# EAGLE library part LPC4357JBD208 (library nxp_60_1_1)
32-bit ARM Cortex-M4/M0 MCU; up to 1 MB flash and 136 kB SRAM; Ethernet, two High-speed USB, LCD, EMC The LPC435x/3x/2x/1x are ARM Cortex-M4 based microcontrollers for embedded applications which include an ARM Cortex-M0 coprocessor, up to 1 MB of flash and 136 kB of on-chip SRAM, 16 kB of EEPROM memory, a quad SPI Flash Interface (SPIFI), advanced configurable peripherals such as the State Configurable Timer (SCT) and the Serial General Purpose I/O (SGPIO) interface, two High-speed USB controllers, Ethernet, LCD, an external memory controller, and multiple digital and analog peripherals. The LPC435x/3x/2x/1x operate at CPU frequencies of up to 204 MHz. The ARM Cortex-M4 is a next generation 32-bit core that offers system enhancements such as low power consumption, enhanced debug features, and a high level of support block integration. The ARM Cortex-M4 CPU incorporates a 3-stage pipeline, uses a Harvard architecture with separate local instruction and data buses as well as a third bus for peripherals, and includes an internal prefetch unit that supports speculative branching. The ARM Cortex-M4 supports single-cycle digital signal processing and SIMD instructions. A hardware floating-point unit is integrated in the core. The ARM Cortex-M0 coprocessor is an energy-efficient and easy-to-use 32-bit core which is upward code- and tool-compatible with the Cortex-M4 core. The Cortex-M0 coprocessor, designed as a replacement for existing 8/16-bit microcontrollers, offers up to 204 MHz performance with a simple instruction set and reduced code size. AAL Eindhoven MK
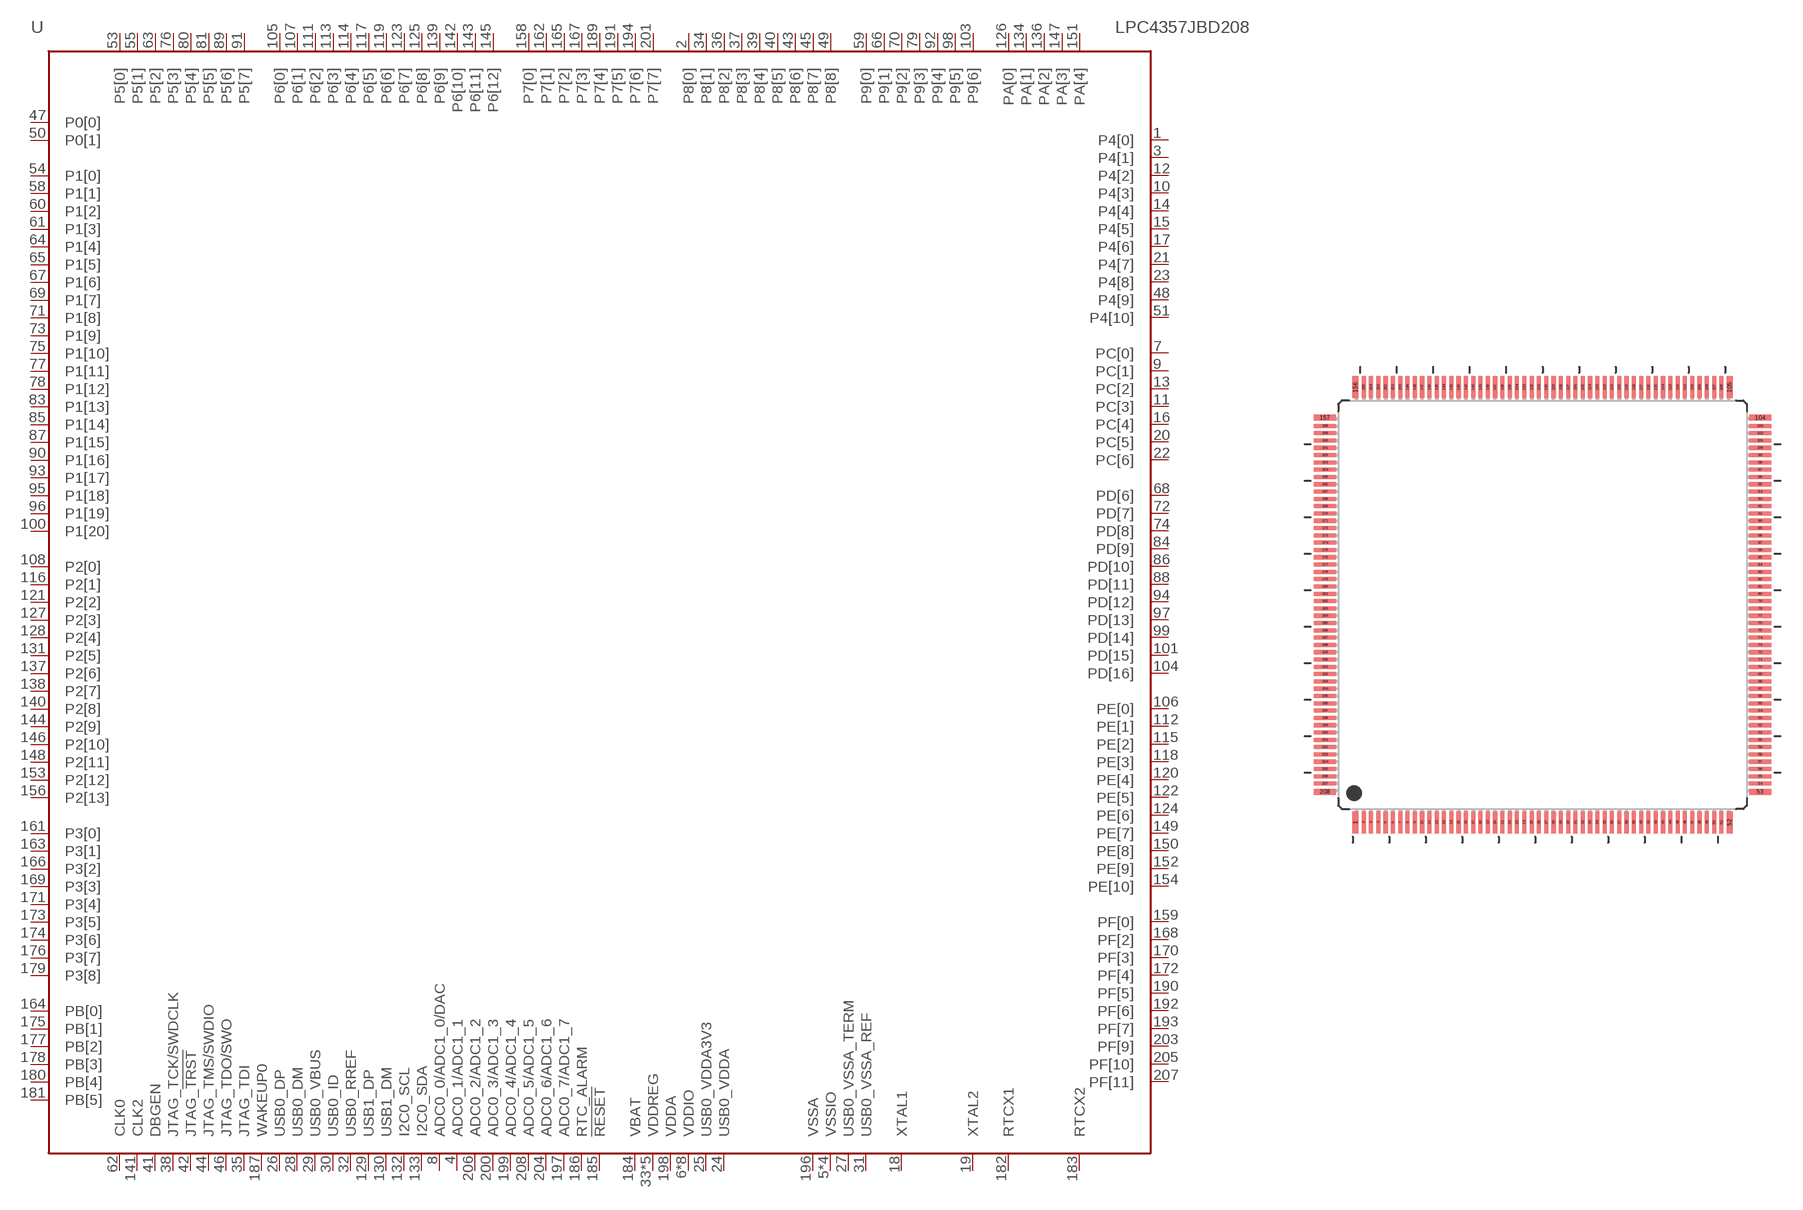
[diagram p155: symbol with the pads of SOT459-1; footprint SOT459-1]

Designator prefix U

## LPC4357JBD208  [SOT459-1]
1  P4[0]
2  P8[0]
3  P4[1]
4  ADC0_1/ADC1_1  in
5  VSSIO  pwr
6  VDDIO  pwr
7  PC[0]
8  ADC0_0/ADC1_0/DAC  in
9  PC[1]
10  P4[3]
11  PC[3]
12  P4[2]
13  PC[2]
14  P4[4]
15  P4[5]
16  PC[4]
17  P4[6]
18  XTAL1  in
19  XTAL2  out
20  PC[5]
21  P4[7]
22  PC[6]
23  P4[8]
24  USB0_VDDA  pwr
25  USB0_VDDA3V3  pwr
26  USB0_DP
27  USB0_VSSA_TERM  pwr
28  USB0_DM
29  USB0_VBUS
30  USB0_ID  in
31  USB0_VSSA_REF  pwr
32  USB0_RREF  pas
33  VDDREG  pwr
34  P8[1]
35  JTAG_TDI  in
36  P8[2]
37  P8[3]
38  JTAG_TCK/SWDCLK  in
39  P8[4]
40  P8[5]
41  DBGEN  in
42  JTAG_!TRST  in
43  P8[6]
44  JTAG_TMS/SWDIO  in
45  P8[7]
46  JTAG_TDO/SWO  out
47  P0[0]
48  P4[9]
49  P8[8]
50  P0[1]
51  P4[10]
52  VDDIO  pwr
53  P5[0]
54  P1[0]
55  P5[1]
56  VSSIO  pwr
57  VDDIO  pwr
58  P1[1]
59  P9[0]
60  P1[2]
61  P1[3]
62  CLK0
63  P5[2]
64  P1[4]
65  P1[5]
66  P9[1]
67  P1[6]
68  PD[6]
69  P1[7]
70  P9[2]
71  P1[8]
72  PD[7]
73  P1[9]
74  PD[8]
75  P1[10]
76  P5[3]
77  P1[11]
78  P1[12]
79  P9[3]
80  P5[4]
81  P5[5]
82  VDDREG  pwr
83  P1[13]
84  PD[9]
85  P1[14]
86  PD[10]
87  P1[15]
88  PD[11]
89  P5[6]
90  P1[16]
91  P5[7]
92  P9[4]
93  P1[17]
94  PD[12]
95  P1[18]
96  P1[19]
97  PD[13]
98  P9[5]
99  PD[14]
100  P1[20]
101  PD[15]
102  VDDIO  pwr
103  P9[6]
104  PD[16]
105  P6[0]
106  PE[0]
107  P6[1]
108  P2[0]
109  VSSIO  pwr
110  VDDIO  pwr
111  P6[2]
112  PE[1]
113  P6[3]
114  P6[4]
115  PE[2]
116  P2[1]
117  P6[5]
118  PE[3]
119  P6[6]
120  PE[4]
121  P2[2]
122  PE[5]
123  P6[7]
124  PE[6]
125  P6[8]
126  PA[0]
127  P2[3]
128  P2[4]
129  USB1_DP
130  USB1_DM
131  P2[5]
132  I2C0_SCL
133  I2C0_SDA
134  PA[1]
135  VDDREG  pwr
136  PA[2]
137  P2[6]
138  P2[7]
139  P6[9]
140  P2[8]
141  CLK2
142  P6[10]
143  P6[11]
144  P2[9]
145  P6[12]
146  P2[10]
147  PA[3]
148  P2[11]
149  PE[7]
150  PE[8]
151  PA[4]
152  PE[9]
153  P2[12]
154  PE[10]
155  VDDIO  pwr
156  P2[13]
157  VSSIO  pwr
158  P7[0]
159  PF[0]
160  VDDIO  pwr
161  P3[0]
162  P7[1]
163  P3[1]
164  PB[0]
165  P7[2]
166  P3[2]
167  P7[3]
168  PF[2]
169  P3[3]
170  PF[3]
171  P3[4]
172  PF[4]
173  P3[5]
174  P3[6]
175  PB[1]
176  P3[7]
177  PB[2]
178  PB[3]
179  P3[8]
180  PB[4]
181  PB[5]
182  RTCX1  in
183  RTCX2  out
184  VBAT  pwr
185  !RESET!  in
186  RTC_ALARM  out
187  WAKEUP0  in
188  VDDREG  pwr
189  P7[4]
190  PF[5]
191  P7[5]
192  PF[6]
193  PF[7]
194  P7[6]
195  VDDREG  pwr
196  VSSA  pwr
197  ADC0_7/ADC1_7  in
198  VDDA  pwr
199  ADC0_4/ADC1_4  in
200  ADC0_3/ADC1_3  in
201  P7[7]
202  VDDIO  pwr
203  PF[9]
204  ADC0_6/ADC1_6  in
205  PF[10]
206  ADC0_2/ADC1_2  in
207  PF[11]
208  ADC0_5/ADC1_5  in

## Footprint SOT459-1 (pad centres in mm)
SOT459-1 LQFP208; plastic low profile quad flat package; 208 leads; body 28 x 28 x 1.4 mm JEDEC: MS-026 IEC: 136E30 JEITA: --
smd 0.4 x 1.5: 1 -12.81,-14.9; 52 12.81,-14.9; 105 12.81,14.9; 156 -12.81,14.9
smd 0.28 x 1.5: 2 -12.25,-14.9; 3 -11.75,-14.9; 4 -11.25,-14.9; 5 -10.75,-14.9; 6 -10.25,-14.9; 7 -9.75,-14.9; 8 -9.25,-14.9; 9 -8.75,-14.9; 10 -8.25,-14.9; 11 -7.75,-14.9; 12 -7.25,-14.9; 13 -6.75,-14.9; 14 -6.25,-14.9; 15 -5.75,-14.9; 16 -5.25,-14.9; 17 -4.75,-14.9; 18 -4.25,-14.9; 19 -3.75,-14.9; 20 -3.25,-14.9; 21 -2.75,-14.9; 22 -2.25,-14.9; 23 -1.75,-14.9; 24 -1.25,-14.9; 25 -0.75,-14.9; 26 -0.25,-14.9; 27 0.25,-14.9; 28 0.75,-14.9; 29 1.25,-14.9; 30 1.75,-14.9; 31 2.25,-14.9; 32 2.75,-14.9; 33 3.25,-14.9; 34 3.75,-14.9; 35 4.25,-14.9; 36 4.75,-14.9; 37 5.25,-14.9; 38 5.75,-14.9; 39 6.25,-14.9; 40 6.75,-14.9; 41 7.25,-14.9; 42 7.75,-14.9; 43 8.25,-14.9; 44 8.75,-14.9; 45 9.25,-14.9; 46 9.75,-14.9; 47 10.25,-14.9; 48 10.75,-14.9; 49 11.25,-14.9; 50 11.75,-14.9; 51 12.25,-14.9; 106 12.25,14.9; 107 11.75,14.9; 108 11.25,14.9; 109 10.75,14.9; 110 10.25,14.9; 111 9.75,14.9; 112 9.25,14.9; 113 8.75,14.9; 114 8.25,14.9; 115 7.75,14.9; 116 7.25,14.9; 117 6.75,14.9; 118 6.25,14.9; 119 5.75,14.9; 120 5.25,14.9; 121 4.75,14.9; 122 4.25,14.9; 123 3.75,14.9; 124 3.25,14.9; 125 2.75,14.9; 126 2.25,14.9; 127 1.75,14.9; 128 1.25,14.9; 129 0.75,14.9; 130 0.25,14.9; 131 -0.25,14.9; 132 -0.75,14.9; 133 -1.25,14.9; 134 -1.75,14.9; 135 -2.25,14.9; 136 -2.75,14.9; 137 -3.25,14.9; 138 -3.75,14.9; 139 -4.25,14.9; 140 -4.75,14.9; 141 -5.25,14.9; 142 -5.75,14.9; 143 -6.25,14.9; 144 -6.75,14.9; 145 -7.25,14.9; 146 -7.75,14.9; 147 -8.25,14.9; 148 -8.75,14.9; 149 -9.25,14.9; 150 -9.75,14.9; 151 -10.25,14.9; 152 -10.75,14.9; 153 -11.25,14.9; 154 -11.75,14.9; 155 -12.25,14.9
smd 1.5 x 0.4: 53 14.9,-12.81; 104 14.9,12.81; 157 -14.9,12.81; 208 -14.9,-12.81
smd 1.5 x 0.28: 54 14.9,-12.25; 55 14.9,-11.75; 56 14.9,-11.25; 57 14.9,-10.75; 58 14.9,-10.25; 59 14.9,-9.75; 60 14.9,-9.25; 61 14.9,-8.75; 62 14.9,-8.25; 63 14.9,-7.75; 64 14.9,-7.25; 65 14.9,-6.75; 66 14.9,-6.25; 67 14.9,-5.75; 68 14.9,-5.25; 69 14.9,-4.75; 70 14.9,-4.25; 71 14.9,-3.75; 72 14.9,-3.25; 73 14.9,-2.75; 74 14.9,-2.25; 75 14.9,-1.75; 76 14.9,-1.25; 77 14.9,-0.75; 78 14.9,-0.25; 79 14.9,0.25; 80 14.9,0.75; 81 14.9,1.25; 82 14.9,1.75; 83 14.9,2.25; 84 14.9,2.75; 85 14.9,3.25; 86 14.9,3.75; 87 14.9,4.25; 88 14.9,4.75; 89 14.9,5.25; 90 14.9,5.75; 91 14.9,6.25; 92 14.9,6.75; 93 14.9,7.25; 94 14.9,7.75; 95 14.9,8.25; 96 14.9,8.75; 97 14.9,9.25; 98 14.9,9.75; 99 14.9,10.25; 100 14.9,10.75; 101 14.9,11.25; 102 14.9,11.75; 103 14.9,12.25; 158 -14.9,12.25; 159 -14.9,11.75; 160 -14.9,11.25; 161 -14.9,10.75; 162 -14.9,10.25; 163 -14.9,9.75; 164 -14.9,9.25; 165 -14.9,8.75; 166 -14.9,8.25; 167 -14.9,7.75; 168 -14.9,7.25; 169 -14.9,6.75; 170 -14.9,6.25; 171 -14.9,5.75; 172 -14.9,5.25; 173 -14.9,4.75; 174 -14.9,4.25; 175 -14.9,3.75; 176 -14.9,3.25; 177 -14.9,2.75; 178 -14.9,2.25; 179 -14.9,1.75; 180 -14.9,1.25; 181 -14.9,0.75; 182 -14.9,0.25; 183 -14.9,-0.25; 184 -14.9,-0.75; 185 -14.9,-1.25; 186 -14.9,-1.75; 187 -14.9,-2.25; 188 -14.9,-2.75; 189 -14.9,-3.25; 190 -14.9,-3.75; 191 -14.9,-4.25; 192 -14.9,-4.75; 193 -14.9,-5.25; 194 -14.9,-5.75; 195 -14.9,-6.25; 196 -14.9,-6.75; 197 -14.9,-7.25; 198 -14.9,-7.75; 199 -14.9,-8.25; 200 -14.9,-8.75; 201 -14.9,-9.25; 202 -14.9,-9.75; 203 -14.9,-10.25; 204 -14.9,-10.75; 205 -14.9,-11.25; 206 -14.9,-11.75; 207 -14.9,-12.25